# Altium footprint library micro-sd.PcbLib: 1 footprints
Each footprint in its own frame and in the unit in brackets; x right, y up, seen from the top. Pads: shape width x height; smd on the part's side, far side on the other; paste and mask are expansions set on the pad; w line width, h text height; cw(c..) or ccw(c..) is an arc to the next point about the centre after c.
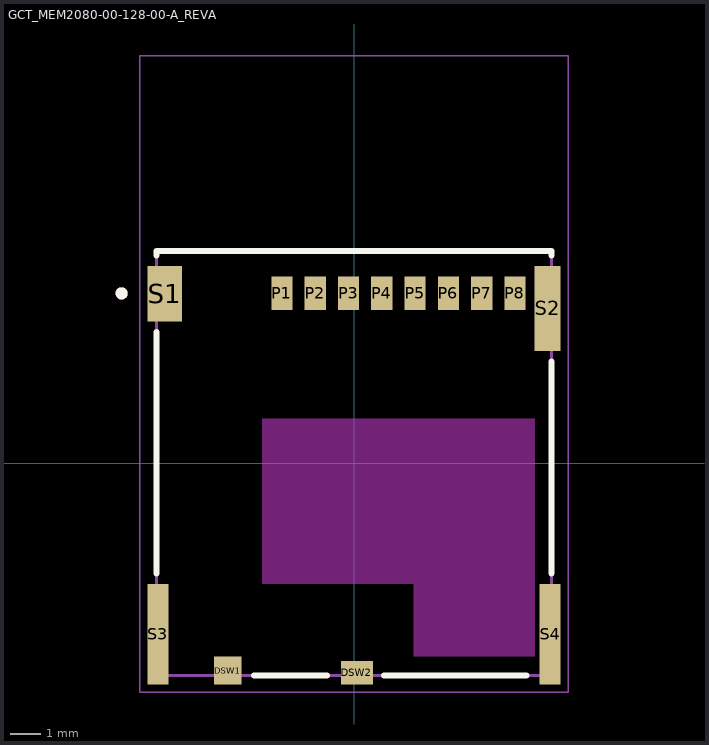
[diagram p0: the footprint, top view; thin cyan lines are the x and y axes]

## GCT_MEM2080-00-128-00-A_REVA [mm]
height 1.28
pads (14):
  rect 0.9x0.93 smd: DSW1(-4.17,-6.85)
  rect 1.05x0.78 smd: DSW2(0.095,-6.925)
  rect 0.7x1.1 smd: P1(-2.38,5.615) P2(-1.28,5.615) P3(-0.18,5.615) P4(0.92,5.615) P5(2.02,5.615) P6(3.12,5.615) P7(4.22,5.615) P8(5.32,5.615)
  rect 1.14x1.83 smd: S1(-6.26,5.6)
  rect 0.86x2.8 smd: S2(6.4,5.115)
  rect 0.7x3.33 smd: S3(-6.48,-5.65) S4(6.48,-5.65)
Top Overlay:
  circle w0.2: c-7.68,5.615 r0.1
  lines w0.2: -6.53,-3.635 -6.53,4.335 ; -6.53,6.865 -6.53,7.015 6.53,7.015 6.53,6.865 ; -3.3,-7.015 -0.9,-7.015 ; 1,-7.015 5.7,-7.015 ; 6.53,-3.635 6.53,3.365
Keep-Out Layer:
  region: 5.97,-6.385 1.97,-6.385 1.97,-3.985 -3.03,-3.985 -3.03,1.465 5.97,1.465
Mechanical 13:
  circle w0.2: c-7.68,5.615 r0.1
  lines w0.1: -6.53,-7.015 6.53,-7.015 6.53,7.015 -6.53,7.015 -6.53,-7.015
Mechanical 15:
  lines w0.05: -7.08,-7.565 -7.08,13.465 7.08,13.465 7.08,-7.565 -7.08,-7.565
3D body "mem2080-00-128-00-a.stp": height 1.28, standoff 0, extent -6.496,-7.152 6.604,6.898